# Altium footprint library EEE-1VA101XP.PcbLib: 1 footprints
Each footprint in its own frame and in the unit in brackets; x right, y up, seen from the top. Pads: shape width x height; smd on the part's side, far side on the other; paste and mask are expansions set on the pad; w line width, h text height; cw(c..) or ccw(c..) is an arc to the next point about the centre after c.
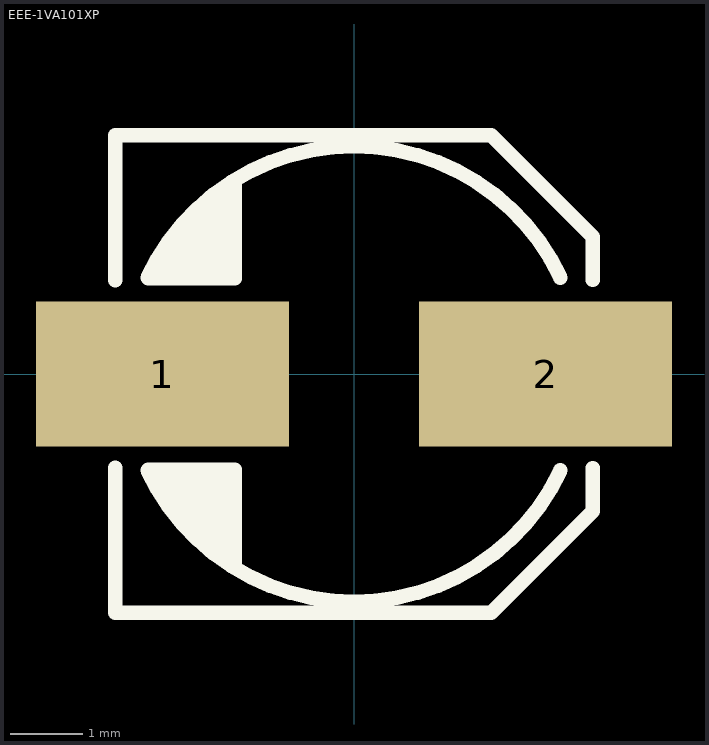
[diagram p0: the footprint, top view; thin cyan lines are the x and y axes]

## EEE-1VA101XP [mm]
height 8
pads (2):
  rect 3.5x2 smd: 1(-2.65,0) 2(2.65,0)
Top Overlay:
  lines w0.2: -3.3,-3.302 -3.3,-1.295 ; -3.3,-3.3 1.9,-3.3 3.3,-1.9 3.3,-1.3 ; -3.3,1.295 -3.3,3.302 ; -3.3,3.3 1.9,3.3 3.3,1.9 3.3,1.3 ; -2.855,-1.331 ccw(c0,0) 2.855,-1.331 ; -2.855,1.331 cw(c0,0) 2.855,1.331 ; -2.845,-1.321 -1.651,-1.321 -1.651,-2.642 ; -2.845,1.321 -1.651,1.321 -1.651,2.642 ; -2.667,-1.422 -2.667,-1.524 -1.778,-2.413 -1.778,-1.473 -2.565,-1.473 -1.981,-2.057 -1.981,-2.108 -1.905,-2.184 -1.905,-1.6 -1.93,-1.575 -2.235,-1.575 -2.057,-1.753 -2.057,-1.778 ; -2.565,1.626 -2.565,1.524 -2.642,1.448 -2.464,1.448 -2.464,1.88 -2.286,2.057 -2.286,1.473 -2.311,1.448 -2.108,1.448 -2.108,2.159 -2.134,2.159 -1.93,2.362 -1.93,1.422 -1.829,1.422 -1.778,1.473 -1.778,2.438 ; -2.032,-1.956 -1.956,-1.88 -1.956,-1.753
3D body: height 7.75, standoff 0, extent -3.493,-3.277 3.493,3.327